# Altium footprint library PCB - MISC - TASTER_LED_P16-TF-R.PCBLIB: 2 footprints
Each footprint in its own frame and in the unit in brackets; x right, y up, seen from the top. Pads: shape width x height; smd on the part's side, far side on the other; paste and mask are expansions set on the pad; w line width, h text height; cw(c..) or ccw(c..) is an arc to the next point about the centre after c.
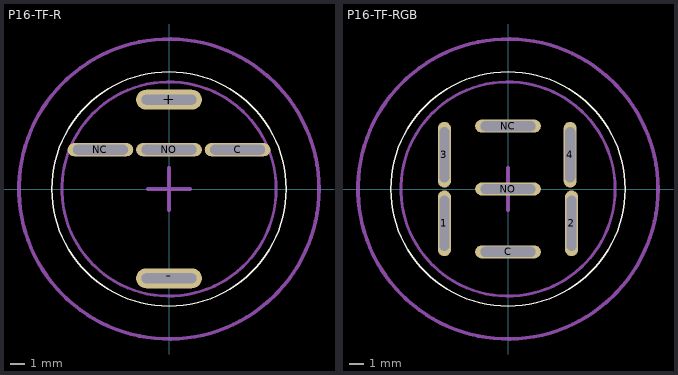
[diagram p0: the footprints below, top view; thin cyan lines are the x and y axes]

## P16-TF-R [mm]
pads (5):
  oval 4.6x1.4 hole 0.687 slot 3.844 at 0 deg: +(0,6.25) -(0,-6.25)
  oval 4.6x0.916 hole 0.687 slot 3.844 at 0 deg: C(4.8,2.75) NC(-4.8,2.75) NO(0,2.75)
Top Overlay:
  circle w0.1: c0,0 r8.2
Top Assembly:
  circle w0.2: c0,0 r7.5
Top Courtyard:
  circle w0.254: c0,0 r10.5
Top Designator:
  text ".Designator" at -2.5,-2.1 h1
Top Component Center:
  lines w0.254: -1.5,0 1.5,0 ; 0,-1.5 0,1.5
Top Value (Mech13):
  text ".Comment" at -2.6,-3.6 h1
3D body "P16-TF-RF.stp": height 34, standoff -3.95, extent -10.97,-9.25 10.97,9.75

## P16-TF-RGB [mm]
pads (7):
  oval 0.916x4.6 hole 0.687 slot 3.844 at 90 deg: 1(-4.45,-2.4) 2(4.45,-2.4) 3(-4.45,2.4) 4(4.35,2.4)
  oval 4.6x0.916 hole 0.687 slot 3.844 at 0 deg: C(0,-4.4) NC(0,4.4) NO(0,0)
Top Overlay:
  circle w0.1: c0,0 r8.2
Top Assembly:
  circle w0.2: c0,0 r7.5
Top Courtyard:
  circle w0.254: c0,0 r10.5
Top Designator:
  text ".Designator" at -2.5,-2.1 h1
Top Component Center:
  lines w0.254: -1.5,0 1.5,0 ; 0,-1.5 0,1.5
Top Value (Mech13):
  text ".Comment" at -2.6,-3.6 h1
3D body "P16-TF-RGB.stp": height 31.3, standoff -4.1, extent -9.5,-10.97 9.5,10.97